# EAGLE library part CAT9532WI (library unicorn_v2)
Encoder to Counter Interface Source: http://www.usdigital.com/products/ls7183-ls7184/ls7183 ls7184 Data Sheet.pdf
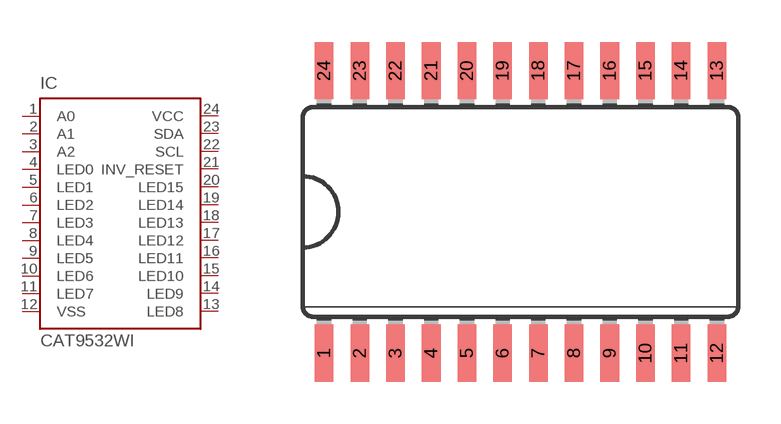
[diagram p0: symbol with the pads of 24SOIT; footprint 24SOIT]

Designator prefix IC

## CAT9532WI  [24SOIT]
1  A0  in
2  A1  in
3  A2  in
4  LED0  in
5  LED1  in
6  LED2  in
7  LED3  in
8  LED4  in
9  LED5  in
10  LED6  in
11  LED7  in
12  VSS  in
13  LED8  in
14  LED9  in
15  LED10  in
16  LED11  in
17  LED12  in
18  LED13  in
19  LED14  in
20  LED15  in
21  INV_RESET  in
22  SCL  in
23  SDA  in
24  VCC  in

## Footprint 24SOIT (pad centres in mm)
smd 0.66 x 2.032: 1 -6.985,-5.029; 2 -5.715,-5.029; 3 -4.445,-5.029; 4 -3.175,-5.029; 5 -1.905,-5.029; 6 -0.635,-5.029; 7 0.635,-5.029; 8 1.905,-5.029; 9 3.175,-5.029; 10 4.445,-5.029; 11 5.715,-5.029; 12 6.985,-5.029; 13 6.985,5.029; 14 5.715,5.029; 15 4.445,5.029; 16 3.175,5.029; 17 1.905,5.029; 18 0.635,5.029; 19 -0.635,5.029; 20 -1.905,5.029; 21 -3.175,5.029; 22 -4.445,5.029; 23 -5.715,5.029; 24 -6.985,5.029